# EAGLE library part ECL82 (library E88CC)
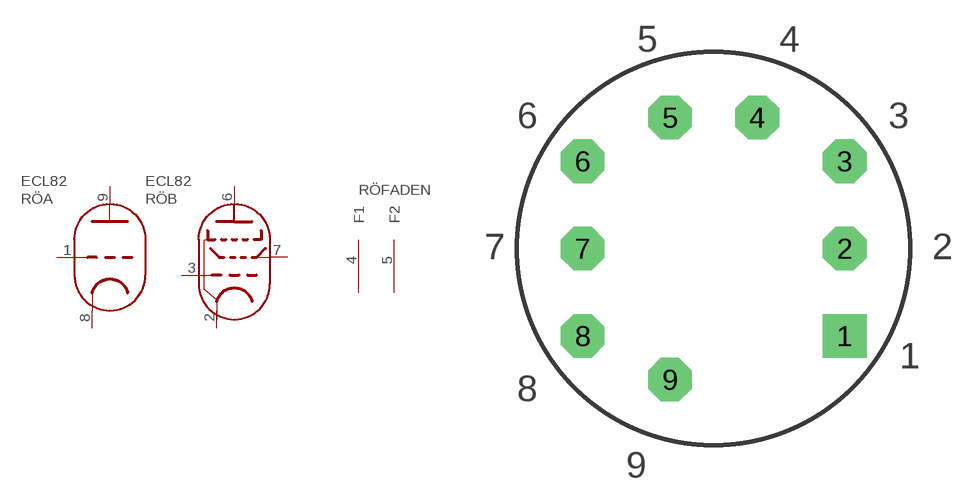
[diagram p7: symbol with the pads of NOVAL_P; footprint NOVAL_P]

Designator prefix RÖ; gates A=TRIODE B=PENTODEA FADEN=FADEN

## ECL82  [NOVAL_P]
1  A:G  in
2  B:K_G3
3  B:G1  in
4  FADEN:F1  pwr
5  FADEN:F2  pwr
6  B:A  out
7  B:G2  in
8  A:K
9  A:A  out

## Footprint NOVAL_P (pad centres in mm)
drill 1 pad 2.54 square: 1 7.62,-5.08
drill 1 pad 2.54 octagon: 2 7.62,0; 3 7.62,5.08; 4 2.54,7.62; 5 -2.54,7.62; 6 -7.62,5.08; 7 -7.62,0; 8 -7.62,-5.08; 9 -2.54,-7.62